# Altium integrated library ON Semi Power Mgt DC-DC Converter.IntLib: 86 symbols (part 1 of 2)
Pins are listed as number, name and electrical type; pins without a type are passive.

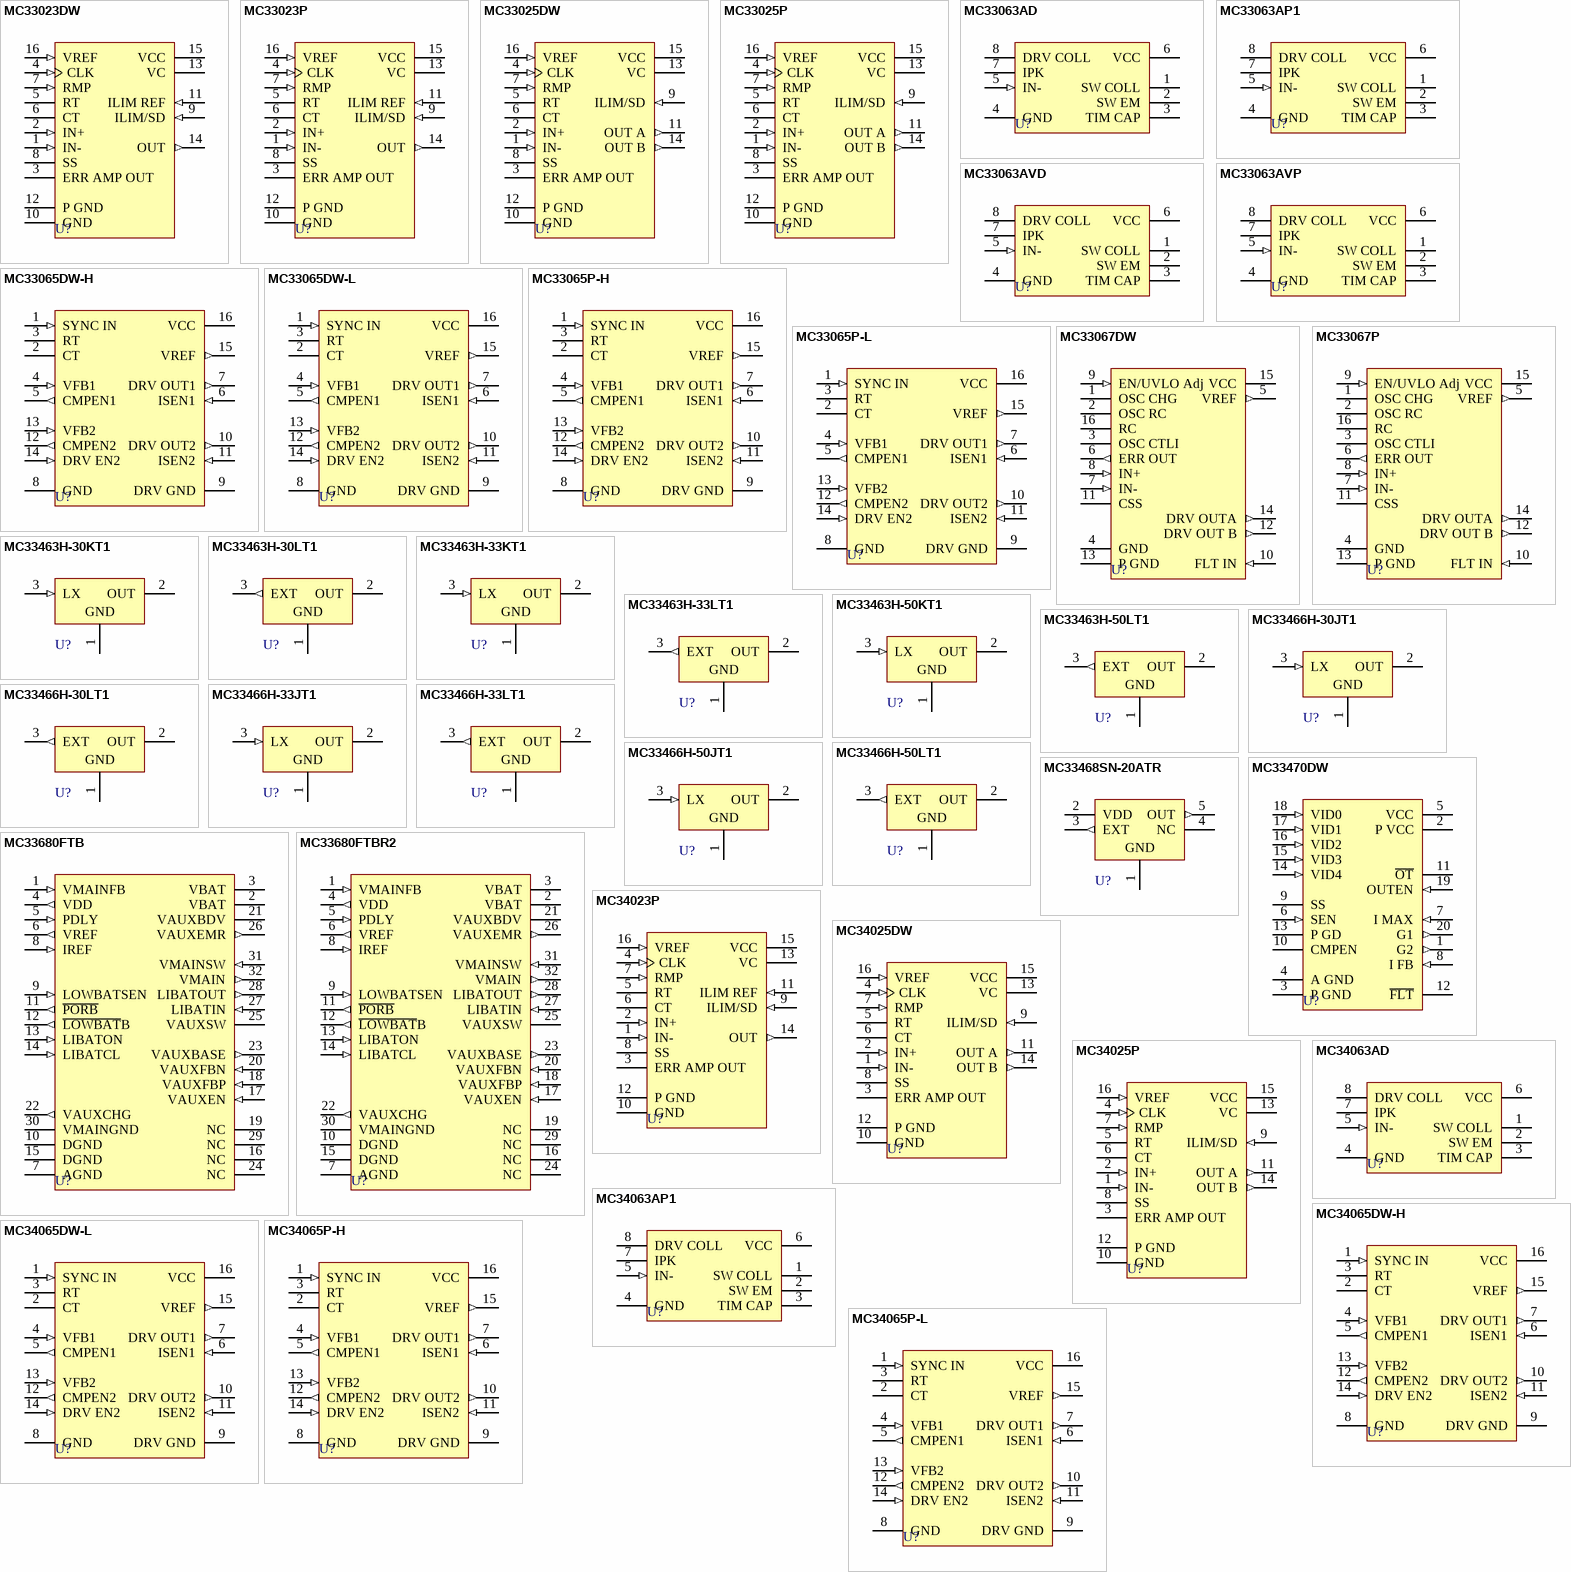
[diagram p0: symbols MC33023DW to MC34065P-L]

## MC33023DW
designator U?
High-Speed Single-Ended PWM Controller; Published: 15-Apr-2002; LatestRevisionDate: 13-Apr-2006; LatestRevisionNote: IPC-7351 Footprint Added.; DatasheetVersion: 1996; PackageVersion: Jul-1999; PackageReference: 751G-03; Publisher: Altium Limited; PackageDescription: 16-Pin Small Outline Integrated Circuit 1.27 mm Pitch; ComponentLink1Description: Manufacturer Link; ComponentLink1URL: http://www.onsemi.com/site/products/taxonomy/0,4438,503,00.html; ComponentLink2Description: Datasheet; ComponentLink2URL: http://www.onsemi.com/pub/Collateral/MC34023-D.PDF
footprint 751G-03_N (SOIC, 16-Leads, Body 10.3x7.5mm, Pitch 1.27mm, IPC Medium Density)
footprint 751G-03_L (SOIC, 16-Leads, Body 10.3x7.5mm, Pitch 1.27mm, IPC High Density)
footprint 751G-03_M (SOIC, 16-Leads, Body 10.3x7.5mm, Pitch 1.27mm, IPC Low Density)
pins: 1 IN- (in), 2 IN+ (in), 3 ERR AMP OUT, 4 CLK (in), 5 RT, 6 CT, 7 RMP (in), 8 SS, 9 ILIM/SD (in), 10 GND (power), 11 ILIM REF (in), 12 P GND (power), 13 VC (power), 14 OUT (out), 15 VCC (power), 16 VREF (in)

## MC33023P
designator U?
High-Speed Single-Ended PWM Controller; Published: 15-Apr-2002; DatasheetVersion: 1996; PackageVersion: Apr-2000; PackageReference: 648-08; Publisher: Altium Limited; PackageDescription: DIP; 16 Leads; Row Spacing 7.62 mm; Pitch 2.54 mm; Code_JEDEC: MS-001-BB; ComponentLink1Description: Manufacturer Link; ComponentLink1URL: http://www.onsemi.com/site/products/taxonomy/0,4438,503,00.html; ComponentLink2Description: Datasheet; ComponentLink2URL: http://www.onsemi.com/pub/Collateral/MC34023-D.PDF
footprint 648-08 (DIP; 16 Leads; Row Spacing 7.62 mm; Pitch 2.54 mm)
pins: 1 IN- (in), 2 IN+ (in), 3 ERR AMP OUT, 4 CLK (in), 5 RT, 6 CT, 7 RMP (in), 8 SS, 9 ILIM/SD (in), 10 GND (power), 11 ILIM REF (in), 12 P GND (power), 13 VC (power), 14 OUT (out), 15 VCC (power), 16 VREF (in)

## MC33025DW
designator U?
High-Speed Double-Ended PWM Controller; Published: 15-Apr-2002; LatestRevisionDate: 13-Apr-2006; LatestRevisionNote: IPC-7351 Footprint Added.; DatasheetVersion: 1996; PackageVersion: Jul-1999; PackageReference: 751G-03; Publisher: Altium Limited; PackageDescription: 16-Pin Small Outline Integrated Circuit 1.27 mm Pitch; ComponentLink1Description: Manufacturer Link; ComponentLink1URL: http://www.onsemi.com/site/products/taxonomy/0,4438,503,00.html; ComponentLink2Description: Datasheet; ComponentLink2URL: http://www.onsemi.com/pub/Collateral/MC34025-D.PDF
footprint 751G-03_N (SOIC, 16-Leads, Body 10.3x7.5mm, Pitch 1.27mm, IPC Medium Density)
footprint 751G-03_L (SOIC, 16-Leads, Body 10.3x7.5mm, Pitch 1.27mm, IPC High Density)
footprint 751G-03_M (SOIC, 16-Leads, Body 10.3x7.5mm, Pitch 1.27mm, IPC Low Density)
pins: 1 IN- (in), 2 IN+ (in), 3 ERR AMP OUT, 4 CLK (in), 5 RT, 6 CT, 7 RMP (in), 8 SS, 9 ILIM/SD (in), 10 GND (power), 11 OUT A (out), 12 P GND (power), 13 VC (power), 14 OUT B (out), 15 VCC (power), 16 VREF (in)

## MC33025P
designator U?
High-Speed Double-Ended PWM Controller; Published: 15-Apr-2002; DatasheetVersion: 1996; PackageVersion: Apr-2000; PackageReference: 648-08; Publisher: Altium Limited; PackageDescription: DIP; 16 Leads; Row Spacing 7.62 mm; Pitch 2.54 mm; Code_JEDEC: MS-001-BB; ComponentLink1Description: Manufacturer Link; ComponentLink1URL: http://www.onsemi.com/site/products/taxonomy/0,4438,503,00.html; ComponentLink2Description: Datasheet; ComponentLink2URL: http://www.onsemi.com/pub/Collateral/MC34025-D.PDF
footprint 648-08 (DIP; 16 Leads; Row Spacing 7.62 mm; Pitch 2.54 mm)
pins: 1 IN- (in), 2 IN+ (in), 3 ERR AMP OUT, 4 CLK (in), 5 RT, 6 CT, 7 RMP (in), 8 SS, 9 ILIM/SD (in), 10 GND (power), 11 OUT A (out), 12 P GND (power), 13 VC (power), 14 OUT B (out), 15 VCC (power), 16 VREF (in)

## MC33063AD
designator U?
DC-to-DC Converter Control Circuit; Published: 15-Apr-2002; LatestRevisionDate: 13-Apr-2006; LatestRevisionNote: IPC-7351 Footprint Added.; DatasheetVersion: 1996; PackageVersion: 1998; PackageReference: 751-05; Publisher: Altium Limited; PackageDescription: 8-Pin Small Outline Integrated Circuit 1.27 mm Pitch; Code_JEDEC: MS-012-AA; Code_IPC: SOIC127P600-8; ComponentLink1Description: Manufacturer Link; ComponentLink1URL: http://www.onsemi.com/site/products/taxonomy/0,4438,503,00.html; ComponentLink2Description: Datasheet; ComponentLink2URL: http://www.onsemi.com/pub/Collateral/MC34063A-D.PDF
footprint 751-05_N (SOIC, 8-Leads, Body 4.9x3.9mm, Pitch 1.27mm, IPC Medium Density)
footprint 751-05_L (SOIC, 8-Leads, Body 4.9x3.9mm, Pitch 1.27mm, IPC High Density)
footprint 751-05_M (SOIC, 8-Leads, Body 4.9x3.9mm, Pitch 1.27mm, IPC Low Density)
pins: 1 SW COLL, 2 SW EM, 3 TIM CAP, 4 GND (power), 5 IN- (in), 6 VCC (power), 7 IPK, 8 DRV COLL (oc)

## MC33063AP1
designator U?
DC-to-DC Converter Control Circuit; Published: 15-Apr-2002; DatasheetVersion: 1996; PackageVersion: 1998; PackageReference: 626-05; Publisher: Altium Limited; PackageDescription: DIP; 8 Leads; Row Spacing 7.62 mm; Pitch 2.54 mm; ComponentLink1Description: Manufacturer Link; ComponentLink1URL: http://www.onsemi.com/site/products/taxonomy/0,4438,503,00.html; ComponentLink2Description: Datasheet; ComponentLink2URL: http://www.onsemi.com/pub/Collateral/MC34063A-D.PDF
footprint 626-05 (DIP; 8 Leads; Row Spacing 7.62 mm; Pitch 2.54 mm)
pins: 1 SW COLL, 2 SW EM, 3 TIM CAP, 4 GND (power), 5 IN- (in), 6 VCC (power), 7 IPK, 8 DRV COLL (oc)

## MC33063AVD
designator U?
DC-to-DC Converter Control Circuit; Published: 15-Apr-2002; LatestRevisionDate: 13-Apr-2006; LatestRevisionNote: IPC-7351 Footprint Added.; DatasheetVersion: 1996; PackageVersion: 1998; PackageReference: 751-05; Publisher: Altium Limited; PackageDescription: 8-Pin Small Outline Integrated Circuit 1.27 mm Pitch; Code_JEDEC: MS-012-AA; Code_IPC: SOIC127P600-8; ComponentLink1Description: Manufacturer Link; ComponentLink1URL: http://www.onsemi.com/site/products/taxonomy/0,4438,503,00.html; ComponentLink2Description: Datasheet; ComponentLink2URL: http://www.onsemi.com/pub/Collateral/MC34063A-D.PDF
footprint 751-05_N (SOIC, 8-Leads, Body 4.9x3.9mm, Pitch 1.27mm, IPC Medium Density)
footprint 751-05_L (SOIC, 8-Leads, Body 4.9x3.9mm, Pitch 1.27mm, IPC High Density)
footprint 751-05_M (SOIC, 8-Leads, Body 4.9x3.9mm, Pitch 1.27mm, IPC Low Density)
pins: 1 SW COLL, 2 SW EM, 3 TIM CAP, 4 GND (power), 5 IN- (in), 6 VCC (power), 7 IPK, 8 DRV COLL (oc)

## MC33063AVP
designator U?
DC-to-DC Converter Control Circuit; Published: 15-Apr-2002; DatasheetVersion: 1996; PackageVersion: 1998; PackageReference: 626-05; Publisher: Altium Limited; PackageDescription: DIP; 8 Leads; Row Spacing 7.62 mm; Pitch 2.54 mm; ComponentLink1Description: Manufacturer Link; ComponentLink1URL: http://www.onsemi.com/site/products/taxonomy/0,4438,503,00.html; ComponentLink2Description: Datasheet; ComponentLink2URL: http://www.onsemi.com/pub/Collateral/MC34063A-D.PDF
footprint 626-05 (DIP; 8 Leads; Row Spacing 7.62 mm; Pitch 2.54 mm)
pins: 1 SW COLL, 2 SW EM, 3 TIM CAP, 4 GND (power), 5 IN- (in), 6 VCC (power), 7 IPK, 8 DRV COLL (oc)

## MC33065DW-H
designator U?
High Performance Dual Channel Current Mode Controller; Published: 15-Apr-2002; LatestRevisionDate: 13-Apr-2006; LatestRevisionNote: IPC-7351 Footprint Added.; DatasheetVersion: 1996; PackageVersion: Jul-1999; PackageReference: 751G-03; Publisher: Altium Limited; PackageDescription: 16-Pin Small Outline Integrated Circuit 1.27 mm Pitch; ComponentLink1Description: Manufacturer Link; ComponentLink1URL: http://www.onsemi.com/site/products/taxonomy/0,4438,503,00.html; ComponentLink2Description: Datasheet; ComponentLink2URL: http://www.onsemi.com/pub/Collateral/MC34065-H-D.PDF
footprint 751G-03_N (SOIC, 16-Leads, Body 10.3x7.5mm, Pitch 1.27mm, IPC Medium Density)
footprint 751G-03_L (SOIC, 16-Leads, Body 10.3x7.5mm, Pitch 1.27mm, IPC High Density)
footprint 751G-03_M (SOIC, 16-Leads, Body 10.3x7.5mm, Pitch 1.27mm, IPC Low Density)
pins: 1 SYNC IN (in), 2 CT, 3 RT, 4 VFB1 (in), 5 CMPEN1 (out), 6 ISEN1 (in), 7 DRV OUT1 (out), 8 GND (power), 9 DRV GND (power), 10 DRV OUT2 (out), 11 ISEN2 (in), 12 CMPEN2 (out), 13 VFB2 (in), 14 DRV EN2 (in), 15 VREF (out), 16 VCC (power)

## MC33065DW-L
designator U?
High Performance Dual Channel Current Mode Controller; Published: 15-Apr-2002; LatestRevisionDate: 13-Apr-2006; LatestRevisionNote: IPC-7351 Footprint Added.; DatasheetVersion: 1996; PackageVersion: Jul-1999; PackageReference: 751G-03; Publisher: Altium Limited; PackageDescription: 16-Pin Small Outline Integrated Circuit 1.27 mm Pitch; ComponentLink1Description: Manufacturer Link; ComponentLink1URL: http://www.onsemi.com/site/products/taxonomy/0,4438,503,00.html; ComponentLink2Description: Datasheet; ComponentLink2URL: http://www.onsemi.com/pub/Collateral/MC34065-H-D.PDF
footprint 751G-03_N (SOIC, 16-Leads, Body 10.3x7.5mm, Pitch 1.27mm, IPC Medium Density)
footprint 751G-03_L (SOIC, 16-Leads, Body 10.3x7.5mm, Pitch 1.27mm, IPC High Density)
footprint 751G-03_M (SOIC, 16-Leads, Body 10.3x7.5mm, Pitch 1.27mm, IPC Low Density)
pins: 1 SYNC IN (in), 2 CT, 3 RT, 4 VFB1 (in), 5 CMPEN1 (out), 6 ISEN1 (in), 7 DRV OUT1 (out), 8 GND (power), 9 DRV GND (power), 10 DRV OUT2 (out), 11 ISEN2 (in), 12 CMPEN2 (out), 13 VFB2 (in), 14 DRV EN2 (in), 15 VREF (out), 16 VCC (power)

## MC33065P-H
designator U?
High Performance Dual Channel Current Mode Controller; Published: 15-Apr-2002; DatasheetVersion: 1996; PackageVersion: Apr-2000; PackageReference: 648-08; Publisher: Altium Limited; PackageDescription: DIP; 16 Leads; Row Spacing 7.62 mm; Pitch 2.54 mm; Code_JEDEC: MS-001-BB; ComponentLink1Description: Manufacturer Link; ComponentLink1URL: http://www.onsemi.com/site/products/taxonomy/0,4438,503,00.html; ComponentLink2Description: Datasheet; ComponentLink2URL: http://www.onsemi.com/pub/Collateral/MC34065-H-D.PDF
footprint 648-08 (DIP; 16 Leads; Row Spacing 7.62 mm; Pitch 2.54 mm)
pins: 1 SYNC IN (in), 2 CT, 3 RT, 4 VFB1 (in), 5 CMPEN1 (out), 6 ISEN1 (in), 7 DRV OUT1 (out), 8 GND (power), 9 DRV GND (power), 10 DRV OUT2 (out), 11 ISEN2 (in), 12 CMPEN2 (out), 13 VFB2 (in), 14 DRV EN2 (in), 15 VREF (out), 16 VCC (power)

## MC33065P-L
designator U?
High Performance Dual Channel Current Mode Controller; Published: 15-Apr-2002; DatasheetVersion: 1996; PackageVersion: Apr-2000; PackageReference: 648-08; Publisher: Altium Limited; PackageDescription: DIP; 16 Leads; Row Spacing 7.62 mm; Pitch 2.54 mm; Code_JEDEC: MS-001-BB; ComponentLink1Description: Manufacturer Link; ComponentLink1URL: http://www.onsemi.com/site/products/taxonomy/0,4438,503,00.html; ComponentLink2Description: Datasheet; ComponentLink2URL: http://www.onsemi.com/pub/Collateral/MC34065-H-D.PDF
footprint 648-08 (DIP; 16 Leads; Row Spacing 7.62 mm; Pitch 2.54 mm)
pins: 1 SYNC IN (in), 2 CT, 3 RT, 4 VFB1 (in), 5 CMPEN1 (out), 6 ISEN1 (in), 7 DRV OUT1 (out), 8 GND (power), 9 DRV GND (power), 10 DRV OUT2 (out), 11 ISEN2 (in), 12 CMPEN2 (out), 13 VFB2 (in), 14 DRV EN2 (in), 15 VREF (out), 16 VCC (power)

## MC33067DW
designator U?
High Performance Resonant Mode Controller; Published: 15-Apr-2002; LatestRevisionDate: 13-Apr-2006; LatestRevisionNote: IPC-7351 Footprint Added.; DatasheetVersion: May-1999; PackageVersion: Jul-1999; PackageReference: 751G-03; Publisher: Altium Limited; PackageDescription: 16-Pin Small Outline Integrated Circuit 1.27 mm Pitch; ComponentLink1Description: Manufacturer Link; ComponentLink1URL: http://www.onsemi.com/site/products/taxonomy/0,4438,503,00.html; ComponentLink2Description: Datasheet; ComponentLink2URL: http://www.onsemi.com/pub/Collateral/MC34067-D.PDF
footprint 751G-03_N (SOIC, 16-Leads, Body 10.3x7.5mm, Pitch 1.27mm, IPC Medium Density)
footprint 751G-03_L (SOIC, 16-Leads, Body 10.3x7.5mm, Pitch 1.27mm, IPC High Density)
footprint 751G-03_M (SOIC, 16-Leads, Body 10.3x7.5mm, Pitch 1.27mm, IPC Low Density)
pins: 1 OSC CHG, 2 OSC RC, 3 OSC CTLI, 4 GND (power), 5 VREF (out), 6 ERR OUT (out), 7 IN- (in), 8 IN+ (in), 9 EN/UVLO Adj (in), 10 FLT IN (in), 11 CSS, 12 DRV OUT B (out), 13 P GND (power), 14 DRV OUTA (out), 15 VCC (power), 16 RC

## MC33067P
designator U?
High Performance Resonant Mode Controller; Published: 15-Apr-2002; DatasheetVersion: May-1999; PackageVersion: Apr-2000; PackageReference: 648-08; Publisher: Altium Limited; PackageDescription: DIP; 16 Leads; Row Spacing 7.62 mm; Pitch 2.54 mm; Code_JEDEC: MS-001-BB; ComponentLink1Description: Manufacturer Link; ComponentLink1URL: http://www.onsemi.com/site/products/taxonomy/0,4438,503,00.html; ComponentLink2Description: Datasheet; ComponentLink2URL: http://www.onsemi.com/pub/Collateral/MC34067-D.PDF
footprint 648-08 (DIP; 16 Leads; Row Spacing 7.62 mm; Pitch 2.54 mm)
pins: 1 OSC CHG, 2 OSC RC, 3 OSC CTLI, 4 GND (power), 5 VREF (out), 6 ERR OUT (out), 7 IN- (in), 8 IN+ (in), 9 EN/UVLO Adj (in), 10 FLT IN (in), 11 CSS, 12 DRV OUT B (out), 13 P GND (power), 14 DRV OUTA (out), 15 VCC (power), 16 RC

## MC33463H-30KT1
designator U?
Variable Frequency MicroPower DC-to-DC Converter; Note: Pin 2 is connected to TAB; Published: 15-Apr-2002; DatasheetVersion: 1999; PackageVersion: 1999; PackageReference: 1213-01; Publisher: Altium Limited; PackageDescription: SOT-89; Body 4.6 x 4.25 mm, inc. leads (LxW max); ComponentLink1Description: Manufacturer Link; ComponentLink1URL: http://www.onsemi.com/site/products/taxonomy/0,4438,503,00.html; ComponentLink2Description: Datasheet; ComponentLink2URL: http://www.onsemi.com/pub/Collateral/MC33463-D.PDF
footprint 1213-01 (SOT-89; Body 4.6 x 4.25 mm, inc. leads (LxW max))
pins: 1 GND (power), 2 OUT (power), 3 LX (in)

## MC33463H-30LT1
designator U?
Variable Frequency MicroPower DC-to-DC Converter; Note: Pin 2 is connected to TAB; Published: 15-Apr-2002; DatasheetVersion: 1999; PackageVersion: 1999; PackageReference: 1213-01; Publisher: Altium Limited; PackageDescription: SOT-89; Body 4.6 x 4.25 mm, inc. leads (LxW max); ComponentLink1Description: Manufacturer Link; ComponentLink1URL: http://www.onsemi.com/site/products/taxonomy/0,4438,503,00.html; ComponentLink2Description: Datasheet; ComponentLink2URL: http://www.onsemi.com/pub/Collateral/MC33463-D.PDF
footprint 1213-01 (SOT-89; Body 4.6 x 4.25 mm, inc. leads (LxW max))
pins: 1 GND (power), 2 OUT (power), 3 EXT (out)

## MC33463H-33KT1
designator U?
Variable Frequency MicroPower DC-to-DC Converter; Note: Pin 2 is connected to TAB; Published: 15-Apr-2002; DatasheetVersion: 1999; PackageVersion: 1999; PackageReference: 1213-01; Publisher: Altium Limited; PackageDescription: SOT-89; Body 4.6 x 4.25 mm, inc. leads (LxW max); ComponentLink1Description: Manufacturer Link; ComponentLink1URL: http://www.onsemi.com/site/products/taxonomy/0,4438,503,00.html; ComponentLink2Description: Datasheet; ComponentLink2URL: http://www.onsemi.com/pub/Collateral/MC33463-D.PDF
footprint 1213-01 (SOT-89; Body 4.6 x 4.25 mm, inc. leads (LxW max))
pins: 1 GND (power), 2 OUT (power), 3 LX (in)

## MC33463H-33LT1
designator U?
Variable Frequency MicroPower DC-to-DC Converter; Note: Pin 2 is connected to TAB; Published: 15-Apr-2002; DatasheetVersion: 1999; PackageVersion: 1999; PackageReference: 1213-01; Publisher: Altium Limited; PackageDescription: SOT-89; Body 4.6 x 4.25 mm, inc. leads (LxW max); ComponentLink1Description: Manufacturer Link; ComponentLink1URL: http://www.onsemi.com/site/products/taxonomy/0,4438,503,00.html; ComponentLink2Description: Datasheet; ComponentLink2URL: http://www.onsemi.com/pub/Collateral/MC33463-D.PDF
footprint 1213-01 (SOT-89; Body 4.6 x 4.25 mm, inc. leads (LxW max))
pins: 1 GND (power), 2 OUT (power), 3 EXT (out)

## MC33463H-50KT1
designator U?
Variable Frequency MicroPower DC-to-DC Converter; Note: Pin 2 is connected to TAB; Published: 15-Apr-2002; DatasheetVersion: 1999; PackageVersion: 1999; PackageReference: 1213-01; Publisher: Altium Limited; PackageDescription: SOT-89; Body 4.6 x 4.25 mm, inc. leads (LxW max); ComponentLink1Description: Manufacturer Link; ComponentLink1URL: http://www.onsemi.com/site/products/taxonomy/0,4438,503,00.html; ComponentLink2Description: Datasheet; ComponentLink2URL: http://www.onsemi.com/pub/Collateral/MC33463-D.PDF
footprint 1213-01 (SOT-89; Body 4.6 x 4.25 mm, inc. leads (LxW max))
pins: 1 GND (power), 2 OUT (power), 3 LX (in)

## MC33463H-50LT1
designator U?
Variable Frequency MicroPower DC-to-DC Converter; Note: Pin 2 is connected to TAB; Published: 15-Apr-2002; DatasheetVersion: 1999; PackageVersion: 1999; PackageReference: 1213-01; Publisher: Altium Limited; PackageDescription: SOT-89; Body 4.6 x 4.25 mm, inc. leads (LxW max); ComponentLink1Description: Manufacturer Link; ComponentLink1URL: http://www.onsemi.com/site/products/taxonomy/0,4438,503,00.html; ComponentLink2Description: Datasheet; ComponentLink2URL: http://www.onsemi.com/pub/Collateral/MC33463-D.PDF
footprint 1213-01 (SOT-89; Body 4.6 x 4.25 mm, inc. leads (LxW max))
pins: 1 GND (power), 2 OUT (power), 3 EXT (out)

## MC33466H-30JT1
designator U?
Fixed Frequency PWM MicroPower DC-to-DC Converter; Note: Tab is connected to Pin 2; Published: 15-Apr-2002; DatasheetVersion: Aug-1999; PackageVersion: 1999; PackageReference: 1213-01; Publisher: Altium Limited; PackageDescription: SOT-89; Body 4.6 x 4.25 mm, inc. leads (LxW max); ComponentLink1Description: Manufacturer Link; ComponentLink1URL: http://www.onsemi.com/site/products/taxonomy/0,4438,503,00.html; ComponentLink2Description: Datasheet; ComponentLink2URL: http://www.onsemi.com/pub/Collateral/MC33466-D.PDF
footprint 1213-01 (SOT-89; Body 4.6 x 4.25 mm, inc. leads (LxW max))
pins: 1 GND (power), 2 OUT (power), 3 LX (in)

## MC33466H-30LT1
designator U?
Fixed Frequency PWM MicroPower DC-to-DC Converter; Note: Tab is connected to Pin 2; Published: 15-Apr-2002; DatasheetVersion: Aug-1999; PackageVersion: 1999; PackageReference: 1213-01; Publisher: Altium Limited; PackageDescription: SOT-89; Body 4.6 x 4.25 mm, inc. leads (LxW max); ComponentLink1Description: Manufacturer Link; ComponentLink1URL: http://www.onsemi.com/site/products/taxonomy/0,4438,503,00.html; ComponentLink2Description: Datasheet; ComponentLink2URL: http://www.onsemi.com/pub/Collateral/MC33466-D.PDF
footprint 1213-01 (SOT-89; Body 4.6 x 4.25 mm, inc. leads (LxW max))
pins: 1 GND (power), 2 OUT (power), 3 EXT (out)

## MC33466H-33JT1
designator U?
Fixed Frequency PWM MicroPower DC-to-DC Converter; Note: Tab is connected to Pin 2; Published: 15-Apr-2002; DatasheetVersion: Aug-1999; PackageVersion: 1999; PackageReference: 1213-01; Publisher: Altium Limited; PackageDescription: SOT-89; Body 4.6 x 4.25 mm, inc. leads (LxW max); ComponentLink1Description: Manufacturer Link; ComponentLink1URL: http://www.onsemi.com/site/products/taxonomy/0,4438,503,00.html; ComponentLink2Description: Datasheet; ComponentLink2URL: http://www.onsemi.com/pub/Collateral/MC33466-D.PDF
footprint 1213-01 (SOT-89; Body 4.6 x 4.25 mm, inc. leads (LxW max))
pins: 1 GND (power), 2 OUT (power), 3 LX (in)

## MC33466H-33LT1
designator U?
Fixed Frequency PWM MicroPower DC-to-DC Converter; Note: Tab is connected to Pin 2; Published: 15-Apr-2002; DatasheetVersion: Aug-1999; PackageVersion: 1999; PackageReference: 1213-01; Publisher: Altium Limited; PackageDescription: SOT-89; Body 4.6 x 4.25 mm, inc. leads (LxW max); ComponentLink1Description: Manufacturer Link; ComponentLink1URL: http://www.onsemi.com/site/products/taxonomy/0,4438,503,00.html; ComponentLink2Description: Datasheet; ComponentLink2URL: http://www.onsemi.com/pub/Collateral/MC33466-D.PDF
footprint 1213-01 (SOT-89; Body 4.6 x 4.25 mm, inc. leads (LxW max))
pins: 1 GND (power), 2 OUT (power), 3 EXT (out)

## MC33466H-50JT1
designator U?
Fixed Frequency PWM MicroPower DC-to-DC Converter; Note: Tab is connected to Pin 2; Published: 15-Apr-2002; DatasheetVersion: Aug-1999; PackageVersion: 1999; PackageReference: 1213-01; Publisher: Altium Limited; PackageDescription: SOT-89; Body 4.6 x 4.25 mm, inc. leads (LxW max); ComponentLink1Description: Manufacturer Link; ComponentLink1URL: http://www.onsemi.com/site/products/taxonomy/0,4438,503,00.html; ComponentLink2Description: Datasheet; ComponentLink2URL: http://www.onsemi.com/pub/Collateral/MC33466-D.PDF
footprint 1213-01 (SOT-89; Body 4.6 x 4.25 mm, inc. leads (LxW max))
pins: 1 GND (power), 2 OUT (power), 3 LX (in)

## MC33466H-50LT1
designator U?
Fixed Frequency PWM MicroPower DC-to-DC Converter; Note: Tab is connected to Pin 2; Published: 15-Apr-2002; DatasheetVersion: Aug-1999; PackageVersion: 1999; PackageReference: 1213-01; Publisher: Altium Limited; PackageDescription: SOT-89; Body 4.6 x 4.25 mm, inc. leads (LxW max); ComponentLink1Description: Manufacturer Link; ComponentLink1URL: http://www.onsemi.com/site/products/taxonomy/0,4438,503,00.html; ComponentLink2Description: Datasheet; ComponentLink2URL: http://www.onsemi.com/pub/Collateral/MC33466-D.PDF
footprint 1213-01 (SOT-89; Body 4.6 x 4.25 mm, inc. leads (LxW max))
pins: 1 GND (power), 2 OUT (power), 3 EXT (out)

## MC33468SN-20ATR
designator U?
Variable Frequency Step-Up Micropower DC-to-DC Converter; Published: 15-Apr-2002; DatasheetVersion: 3-Sep-1999; PackageVersion: Jul-1999; PackageReference: 1212-01; Publisher: Altium Limited; PackageDescription: SOT-23/SC-74A; 5 Leads; Body 3 x 3.1 mm, inc. leads (LxW max); ComponentLink1Description: Manufacturer Link; ComponentLink1URL: http://www.onsemi.com/site/products/taxonomy/0,4438,503,00.html; ComponentLink2Description: Datasheet; ComponentLink2URL: http://www.onsemi.com/pub/Collateral/MC33468-D.PDF
footprint 1212-01 (SOT-23/SC-74A; 5 Leads; Body 3 x 3.1 mm, inc. leads (LxW max))
pins: 1 GND (power), 2 VDD (power), 3 EXT (out), 4 NC, 5 OUT (out)

## MC33470DW
designator U?
Synchronous Rectification, DC/DC Converter, Programmable Integrated Controller; Published: 15-Apr-2002; LatestRevisionDate: 13-Apr-2006; LatestRevisionNote: IPC-7351 Footprint Added.; DatasheetVersion: 1999; PackageVersion: 1999; PackageReference: 751D; Publisher: Altium Limited; PackageDescription: 20-Pin Small Outline Integrated Circuit 1.27 mm Pitch; ComponentLink1Description: Manufacturer Link; ComponentLink1URL: http://www.onsemi.com/site/products/taxonomy/0,4438,503,00.html; ComponentLink2Description: Datasheet; ComponentLink2URL: http://www.onsemi.com/pub/Collateral/MC33470-D.PDF
footprint 751D_N (SOIC, 20-Leads, Body 12.8x7.5mm, Pitch 1.27mm, IPC Medium Density)
footprint 751D_L (SOIC, 20-Leads, Body 12.8x7.5mm, Pitch 1.27mm, IPC High Density)
footprint 751D_M (SOIC, 20-Leads, Body 12.8x7.5mm, Pitch 1.27mm, IPC Low Density)
pins: 1 G2 (out), 2 P VCC (power), 3 P GND (power), 4 A GND (power), 5 VCC (power), 6 SEN (in), 7 I MAX (in), 8 I FB (in), 9 SS, 10 CMPEN, 11 ~{OT} (oc), 12 ~{FLT} (oc), 13 P GD (oc), 14 VID4 (in), 15 VID3 (in), 16 VID2 (in), 17 VID1 (in), 18 VID0 (in), 19 OUTEN (in), 20 G1 (out)

## MC33680FTB
designator U?
Dual DC-DC Regulator for Electronic Organizer; Published: 15-Apr-2002; LatestRevisionDate: 13-Apr-2006; LatestRevisionNote: IPC-7351 Footprint Added.; DatasheetVersion: May-2000; PackageVersion: May-2000; PackageReference: 873A-02; Publisher: Altium Limited; PackageDescription: 32-Pin Thin Quad Flat Pack 0.8 mm Pitch; ComponentLink1Description: Manufacturer Link; ComponentLink1URL: http://www.onsemi.com/site/products/taxonomy/0,4438,503,00.html; ComponentLink2Description: Datasheet; ComponentLink2URL: http://www.onsemi.com/pub/Collateral/MC33680-D.PDF
footprint 873A-02_N (Thin QFP, 32-Leads, Body 7x7mm, Pitch 0.8mm, IPC Medium Density)
footprint 873A-02_L (Thin QFP, 32-Leads, Body 7x7mm, Pitch 0.8mm, IPC High Density)
footprint 873A-02_M (Thin QFP, 32-Leads, Body 7x7mm, Pitch 0.8mm, IPC Low Density)
pins: 1 VMAINFB (in), 2 VBAT (power), 3 VBAT (power), 4 VDD (out), 5 PDLY (in), 6 VREF (out), 7 AGND (power), 8 IREF (in), 9 LOWBATSEN (in), 10 DGND (power), 11 ~{PORB} (out), 12 ~{LOWBAT}B (out), 13 LIBATON (in), 14 LIBATCL (in), 15 DGND (power), 16 NC, 17 VAUXEN (in), 18 VAUXFBP (in), 19 NC, 20 VAUXFBN (in), 21 VAUXBDV (power), 22 VAUXCHG (out), 23 VAUXBASE (out), 24 NC, 25 VAUXSW (oc), 26 VAUXEMR (out), 27 LIBATIN (in), 28 LIBATOUT (out), 29 NC, 30 VMAINGND (power), 31 VMAINSW (in), 32 VMAIN (out)

## MC33680FTBR2
designator U?
Dual DC-DC Regulator for Electronic Organizer; Published: 15-Apr-2002; LatestRevisionDate: 13-Apr-2006; LatestRevisionNote: IPC-7351 Footprint Added.; DatasheetVersion: May-2000; PackageVersion: May-2000; PackageReference: 873A-02; Publisher: Altium Limited; PackageDescription: 32-Pin Thin Quad Flat Pack 0.8 mm Pitch; ComponentLink1Description: Manufacturer Link; ComponentLink1URL: http://www.onsemi.com/site/products/taxonomy/0,4438,503,00.html; ComponentLink2Description: Datasheet; ComponentLink2URL: http://www.onsemi.com/pub/Collateral/MC33680-D.PDF
footprint 873A-02_N (Thin QFP, 32-Leads, Body 7x7mm, Pitch 0.8mm, IPC Medium Density)
footprint 873A-02_L (Thin QFP, 32-Leads, Body 7x7mm, Pitch 0.8mm, IPC High Density)
footprint 873A-02_M (Thin QFP, 32-Leads, Body 7x7mm, Pitch 0.8mm, IPC Low Density)
pins: 1 VMAINFB (in), 2 VBAT (power), 3 VBAT (power), 4 VDD (out), 5 PDLY (in), 6 VREF (out), 7 AGND (power), 8 IREF (in), 9 LOWBATSEN (in), 10 DGND (power), 11 ~{PORB} (out), 12 ~{LOWBAT}B (out), 13 LIBATON (in), 14 LIBATCL (in), 15 DGND (power), 16 NC, 17 VAUXEN (in), 18 VAUXFBP (in), 19 NC, 20 VAUXFBN (in), 21 VAUXBDV (power), 22 VAUXCHG (out), 23 VAUXBASE (out), 24 NC, 25 VAUXSW (oc), 26 VAUXEMR (out), 27 LIBATIN (in), 28 LIBATOUT (out), 29 NC, 30 VMAINGND (power), 31 VMAINSW (in), 32 VMAIN (out)

## MC34023P
designator U?
High-Speed Single-Ended PWM Controller; Published: 15-Apr-2002; DatasheetVersion: 1996; PackageVersion: Apr-2000; PackageReference: 648-08; Publisher: Altium Limited; PackageDescription: DIP; 16 Leads; Row Spacing 7.62 mm; Pitch 2.54 mm; Code_JEDEC: MS-001-BB; ComponentLink1Description: Manufacturer Link; ComponentLink1URL: http://www.onsemi.com/site/products/taxonomy/0,4438,503,00.html; ComponentLink2Description: Datasheet; ComponentLink2URL: http://www.onsemi.com/pub/Collateral/MC34023-D.PDF
footprint 648-08 (DIP; 16 Leads; Row Spacing 7.62 mm; Pitch 2.54 mm)
pins: 1 IN- (in), 2 IN+ (in), 3 ERR AMP OUT, 4 CLK (in), 5 RT, 6 CT, 7 RMP (in), 8 SS, 9 ILIM/SD (in), 10 GND (power), 11 ILIM REF (in), 12 P GND (power), 13 VC (power), 14 OUT (out), 15 VCC (power), 16 VREF (in)

## MC34025DW
designator U?
High-Speed Double-Ended PWM Controller; Published: 15-Apr-2002; LatestRevisionDate: 13-Apr-2006; LatestRevisionNote: IPC-7351 Footprint Added.; DatasheetVersion: 1996; PackageVersion: Jul-1999; PackageReference: 751G-03; Publisher: Altium Limited; PackageDescription: 16-Pin Small Outline Integrated Circuit 1.27 mm Pitch; ComponentLink1Description: Manufacturer Link; ComponentLink1URL: http://www.onsemi.com/site/products/taxonomy/0,4438,503,00.html; ComponentLink2Description: Datasheet; ComponentLink2URL: http://www.onsemi.com/pub/Collateral/MC34025-D.PDF
footprint 751G-03_N (SOIC, 16-Leads, Body 10.3x7.5mm, Pitch 1.27mm, IPC Medium Density)
footprint 751G-03_L (SOIC, 16-Leads, Body 10.3x7.5mm, Pitch 1.27mm, IPC High Density)
footprint 751G-03_M (SOIC, 16-Leads, Body 10.3x7.5mm, Pitch 1.27mm, IPC Low Density)
pins: 1 IN- (in), 2 IN+ (in), 3 ERR AMP OUT, 4 CLK (in), 5 RT, 6 CT, 7 RMP (in), 8 SS, 9 ILIM/SD (in), 10 GND (power), 11 OUT A (out), 12 P GND (power), 13 VC (power), 14 OUT B (out), 15 VCC (power), 16 VREF (in)

## MC34025P
designator U?
High-Speed Double-Ended PWM Controller; Published: 15-Apr-2002; DatasheetVersion: 1996; PackageVersion: Apr-2000; PackageReference: 648-08; Publisher: Altium Limited; PackageDescription: DIP; 16 Leads; Row Spacing 7.62 mm; Pitch 2.54 mm; Code_JEDEC: MS-001-BB; ComponentLink1Description: Manufacturer Link; ComponentLink1URL: http://www.onsemi.com/site/products/taxonomy/0,4438,503,00.html; ComponentLink2Description: Datasheet; ComponentLink2URL: http://www.onsemi.com/pub/Collateral/MC34025-D.PDF
footprint 648-08 (DIP; 16 Leads; Row Spacing 7.62 mm; Pitch 2.54 mm)
pins: 1 IN- (in), 2 IN+ (in), 3 ERR AMP OUT, 4 CLK (in), 5 RT, 6 CT, 7 RMP (in), 8 SS, 9 ILIM/SD (in), 10 GND (power), 11 OUT A (out), 12 P GND (power), 13 VC (power), 14 OUT B (out), 15 VCC (power), 16 VREF (in)

## MC34063AD
designator U?
DC-to-DC Converter Control Circuit; Published: 15-Apr-2002; LatestRevisionDate: 13-Apr-2006; LatestRevisionNote: IPC-7351 Footprint Added.; DatasheetVersion: 1996; PackageVersion: 1998; PackageReference: 751-05; Publisher: Altium Limited; PackageDescription: 8-Pin Small Outline Integrated Circuit 1.27 mm Pitch; Code_JEDEC: MS-012-AA; Code_IPC: SOIC127P600-8; ComponentLink1Description: Manufacturer Link; ComponentLink1URL: http://www.onsemi.com/site/products/taxonomy/0,4438,503,00.html; ComponentLink2Description: Datasheet; ComponentLink2URL: http://www.onsemi.com/pub/Collateral/MC34063A-D.PDF
footprint 751-05_N (SOIC, 8-Leads, Body 4.9x3.9mm, Pitch 1.27mm, IPC Medium Density)
footprint 751-05_L (SOIC, 8-Leads, Body 4.9x3.9mm, Pitch 1.27mm, IPC High Density)
footprint 751-05_M (SOIC, 8-Leads, Body 4.9x3.9mm, Pitch 1.27mm, IPC Low Density)
pins: 1 SW COLL, 2 SW EM, 3 TIM CAP, 4 GND (power), 5 IN- (in), 6 VCC (power), 7 IPK, 8 DRV COLL (oc)

## MC34063AP1
designator U?
DC-to-DC Converter Control Circuit; Published: 15-Apr-2002; DatasheetVersion: 1996; PackageVersion: 1998; PackageReference: 626-05; Publisher: Altium Limited; PackageDescription: DIP; 8 Leads; Row Spacing 7.62 mm; Pitch 2.54 mm; ComponentLink1Description: Manufacturer Link; ComponentLink1URL: http://www.onsemi.com/site/products/taxonomy/0,4438,503,00.html; ComponentLink2Description: Datasheet; ComponentLink2URL: http://www.onsemi.com/pub/Collateral/MC34063A-D.PDF
footprint 626-05 (DIP; 8 Leads; Row Spacing 7.62 mm; Pitch 2.54 mm)
pins: 1 SW COLL, 2 SW EM, 3 TIM CAP, 4 GND (power), 5 IN- (in), 6 VCC (power), 7 IPK, 8 DRV COLL (oc)

## MC34065DW-H
designator U?
High Performance Dual Channel Current Mode Controller; Published: 15-Apr-2002; LatestRevisionDate: 13-Apr-2006; LatestRevisionNote: IPC-7351 Footprint Added.; DatasheetVersion: 1996; PackageVersion: Jul-1999; PackageReference: 751G-03; Publisher: Altium Limited; PackageDescription: 16-Pin Small Outline Integrated Circuit 1.27 mm Pitch; ComponentLink1Description: Manufacturer Link; ComponentLink1URL: http://www.onsemi.com/site/products/taxonomy/0,4438,503,00.html; ComponentLink2Description: Datasheet; ComponentLink2URL: http://www.onsemi.com/pub/Collateral/MC34065-H-D.PDF
footprint 751G-03_N (SOIC, 16-Leads, Body 10.3x7.5mm, Pitch 1.27mm, IPC Medium Density)
footprint 751G-03_L (SOIC, 16-Leads, Body 10.3x7.5mm, Pitch 1.27mm, IPC High Density)
footprint 751G-03_M (SOIC, 16-Leads, Body 10.3x7.5mm, Pitch 1.27mm, IPC Low Density)
pins: 1 SYNC IN (in), 2 CT, 3 RT, 4 VFB1 (in), 5 CMPEN1 (out), 6 ISEN1 (in), 7 DRV OUT1 (out), 8 GND (power), 9 DRV GND (power), 10 DRV OUT2 (out), 11 ISEN2 (in), 12 CMPEN2 (out), 13 VFB2 (in), 14 DRV EN2 (in), 15 VREF (out), 16 VCC (power)

## MC34065DW-L
designator U?
High Performance Dual Channel Current Mode Controller; Published: 15-Apr-2002; LatestRevisionDate: 13-Apr-2006; LatestRevisionNote: IPC-7351 Footprint Added.; DatasheetVersion: 1996; PackageVersion: Jul-1999; PackageReference: 751G-03; Publisher: Altium Limited; PackageDescription: 16-Pin Small Outline Integrated Circuit 1.27 mm Pitch; ComponentLink1Description: Manufacturer Link; ComponentLink1URL: http://www.onsemi.com/site/products/taxonomy/0,4438,503,00.html; ComponentLink2Description: Datasheet; ComponentLink2URL: http://www.onsemi.com/pub/Collateral/MC34065-H-D.PDF
footprint 751G-03_N (SOIC, 16-Leads, Body 10.3x7.5mm, Pitch 1.27mm, IPC Medium Density)
footprint 751G-03_L (SOIC, 16-Leads, Body 10.3x7.5mm, Pitch 1.27mm, IPC High Density)
footprint 751G-03_M (SOIC, 16-Leads, Body 10.3x7.5mm, Pitch 1.27mm, IPC Low Density)
pins: 1 SYNC IN (in), 2 CT, 3 RT, 4 VFB1 (in), 5 CMPEN1 (out), 6 ISEN1 (in), 7 DRV OUT1 (out), 8 GND (power), 9 DRV GND (power), 10 DRV OUT2 (out), 11 ISEN2 (in), 12 CMPEN2 (out), 13 VFB2 (in), 14 DRV EN2 (in), 15 VREF (out), 16 VCC (power)

## MC34065P-H
designator U?
High Performance Dual Channel Current Mode Controller; Published: 15-Apr-2002; DatasheetVersion: 1996; PackageVersion: Apr-2000; PackageReference: 648-08; Publisher: Altium Limited; PackageDescription: DIP; 16 Leads; Row Spacing 7.62 mm; Pitch 2.54 mm; Code_JEDEC: MS-001-BB; ComponentLink1Description: Manufacturer Link; ComponentLink1URL: http://www.onsemi.com/site/products/taxonomy/0,4438,503,00.html; ComponentLink2Description: Datasheet; ComponentLink2URL: http://www.onsemi.com/pub/Collateral/MC34065-H-D.PDF
footprint 648-08 (DIP; 16 Leads; Row Spacing 7.62 mm; Pitch 2.54 mm)
pins: 1 SYNC IN (in), 2 CT, 3 RT, 4 VFB1 (in), 5 CMPEN1 (out), 6 ISEN1 (in), 7 DRV OUT1 (out), 8 GND (power), 9 DRV GND (power), 10 DRV OUT2 (out), 11 ISEN2 (in), 12 CMPEN2 (out), 13 VFB2 (in), 14 DRV EN2 (in), 15 VREF (out), 16 VCC (power)

## MC34065P-L
designator U?
High Performance Dual Channel Current Mode Controller; Published: 15-Apr-2002; DatasheetVersion: 1996; PackageVersion: Apr-2000; PackageReference: 648-08; Publisher: Altium Limited; PackageDescription: DIP; 16 Leads; Row Spacing 7.62 mm; Pitch 2.54 mm; Code_JEDEC: MS-001-BB; ComponentLink1Description: Manufacturer Link; ComponentLink1URL: http://www.onsemi.com/site/products/taxonomy/0,4438,503,00.html; ComponentLink2Description: Datasheet; ComponentLink2URL: http://www.onsemi.com/pub/Collateral/MC34065-H-D.PDF
footprint 648-08 (DIP; 16 Leads; Row Spacing 7.62 mm; Pitch 2.54 mm)
pins: 1 SYNC IN (in), 2 CT, 3 RT, 4 VFB1 (in), 5 CMPEN1 (out), 6 ISEN1 (in), 7 DRV OUT1 (out), 8 GND (power), 9 DRV GND (power), 10 DRV OUT2 (out), 11 ISEN2 (in), 12 CMPEN2 (out), 13 VFB2 (in), 14 DRV EN2 (in), 15 VREF (out), 16 VCC (power)

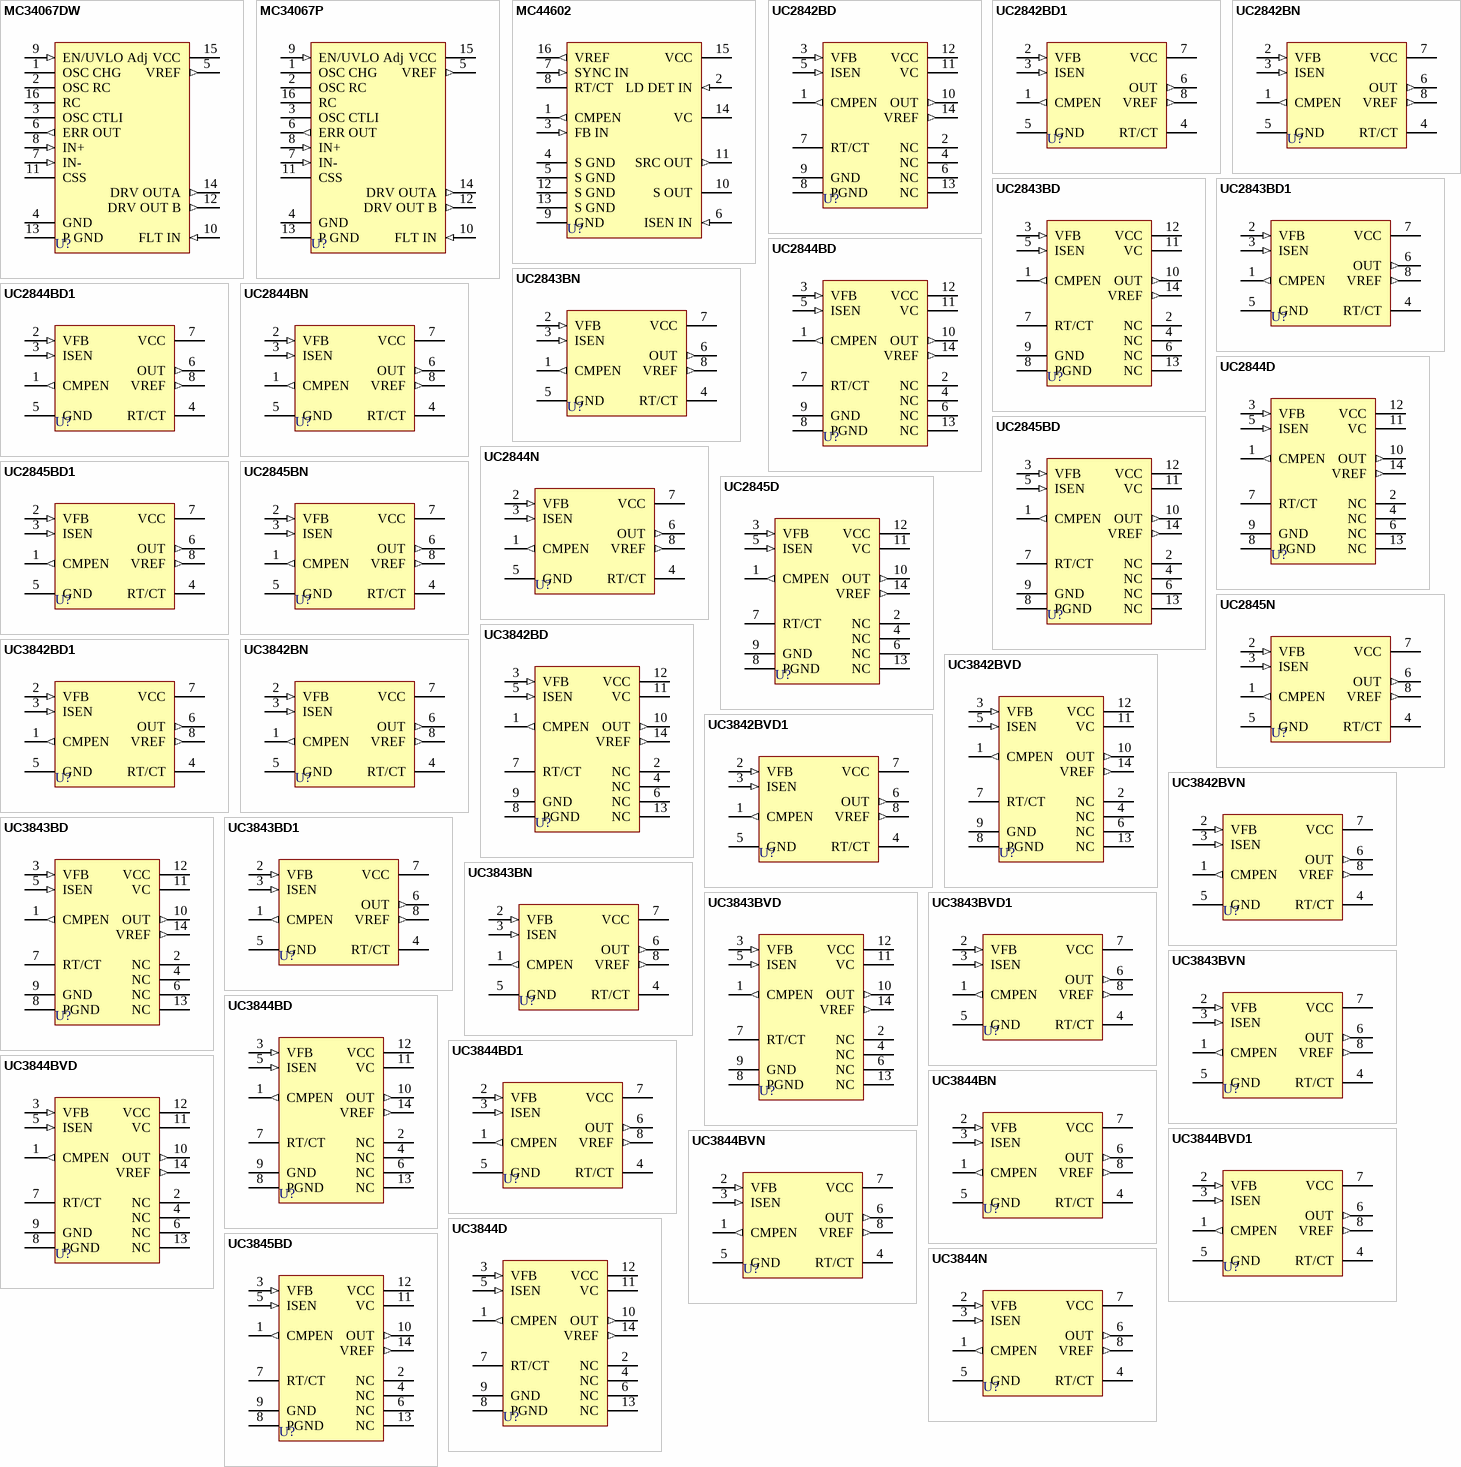
[diagram p1: symbols MC34067DW to UC3845BD]

## MC34067DW
designator U?
High Performance Resonant Mode Controller; Published: 15-Apr-2002; LatestRevisionDate: 13-Apr-2006; LatestRevisionNote: IPC-7351 Footprint Added.; DatasheetVersion: May-1999; PackageVersion: Jul-1999; PackageReference: 751G-03; Publisher: Altium Limited; PackageDescription: 16-Pin Small Outline Integrated Circuit 1.27 mm Pitch; ComponentLink1Description: Manufacturer Link; ComponentLink1URL: http://www.onsemi.com/site/products/taxonomy/0,4438,503,00.html; ComponentLink2Description: Datasheet; ComponentLink2URL: http://www.onsemi.com/pub/Collateral/MC34067-D.PDF
footprint 751G-03_N (SOIC, 16-Leads, Body 10.3x7.5mm, Pitch 1.27mm, IPC Medium Density)
footprint 751G-03_L (SOIC, 16-Leads, Body 10.3x7.5mm, Pitch 1.27mm, IPC High Density)
footprint 751G-03_M (SOIC, 16-Leads, Body 10.3x7.5mm, Pitch 1.27mm, IPC Low Density)
pins: 1 OSC CHG, 2 OSC RC, 3 OSC CTLI, 4 GND (power), 5 VREF (out), 6 ERR OUT (out), 7 IN- (in), 8 IN+ (in), 9 EN/UVLO Adj (in), 10 FLT IN (in), 11 CSS, 12 DRV OUT B (out), 13 P GND (power), 14 DRV OUTA (out), 15 VCC (power), 16 RC

## MC34067P
designator U?
High Performance Resonant Mode Controller; Published: 15-Apr-2002; DatasheetVersion: May-1999; PackageVersion: Apr-2000; PackageReference: 648-08; Publisher: Altium Limited; PackageDescription: DIP; 16 Leads; Row Spacing 7.62 mm; Pitch 2.54 mm; Code_JEDEC: MS-001-BB; ComponentLink1Description: Manufacturer Link; ComponentLink1URL: http://www.onsemi.com/site/products/taxonomy/0,4438,503,00.html; ComponentLink2Description: Datasheet; ComponentLink2URL: http://www.onsemi.com/pub/Collateral/MC34067-D.PDF
footprint 648-08 (DIP; 16 Leads; Row Spacing 7.62 mm; Pitch 2.54 mm)
pins: 1 OSC CHG, 2 OSC RC, 3 OSC CTLI, 4 GND (power), 5 VREF (out), 6 ERR OUT (out), 7 IN- (in), 8 IN+ (in), 9 EN/UVLO Adj (in), 10 FLT IN (in), 11 CSS, 12 DRV OUT B (out), 13 P GND (power), 14 DRV OUTA (out), 15 VCC (power), 16 RC

## MC44602
designator U?
High Performance Current Mode Controller; Published: 15-Apr-2002; DatasheetVersion: 1996; PackageVersion: 1996; PackageReference: 648C-03; Publisher: Altium Limited; PackageDescription: DIP; 16 Leads; Row Spacing 7.62 mm; Pitch 2.54 mm; ComponentLink1Description: Manufacturer Link; ComponentLink1URL: http://www.onsemi.com/site/products/taxonomy/0,4438,503,00.html
footprint 648C-03 (DIP; 16 Leads; Row Spacing 7.62 mm; Pitch 2.54 mm)
pins: 1 CMPEN (out), 2 LD DET IN (in), 3 FB IN (in), 4 S GND (power), 5 S GND (power), 6 ISEN IN (in), 7 SYNC IN (in), 8 RT/CT, 9 GND (power), 10 S OUT (oc), 11 SRC OUT (out), 12 S GND (power), 13 S GND (power), 14 VC (power), 15 VCC (power), 16 VREF (out)

## UC2842BD
designator U?
High Performance Current Mode Controller; Published: 15-Apr-2002; LatestRevisionDate: 13-Apr-2006; LatestRevisionNote: IPC-7351 Footprint Added.; DatasheetVersion: 1996; PackageReference: 751A-03; Publisher: Altium Limited; PackageDescription: 14-Pin Small Outline Integrated Circuit 1.27 mm Pitch; Code_JEDEC: MS-012-AB; Code_IPC: SOIC127P600-14; ComponentLink1Description: Manufacturer Link; ComponentLink1URL: http://www.onsemi.com/site/products/taxonomy/0,4438,503,00.html; ComponentLink2Description: Datasheet; ComponentLink2URL: http://www.onsemi.com/pub/Collateral/UC3842B.PDF
footprint 751A-03_N (SOIC, 14-Leads, Body 8.7x3.9mm, Pitch 1.27mm, IPC Medium Density)
footprint 751A-03_L (SOIC, 14-Leads, Body 8.7x3.9mm, Pitch 1.27mm, IPC High Density)
footprint 751A-03_M (SOIC, 14-Leads, Body 8.7x3.9mm, Pitch 1.27mm, IPC Low Density)
pins: 1 CMPEN (out), 2 NC, 3 VFB (in), 4 NC, 5 ISEN (in), 6 NC, 7 RT/CT, 8 PGND (power), 9 GND (power), 10 OUT (out), 11 VC (power), 12 VCC (power), 13 NC, 14 VREF (out)

## UC2842BD1
designator U?
High Performance Current Mode Controller; Published: 15-Apr-2002; LatestRevisionDate: 13-Apr-2006; LatestRevisionNote: IPC-7351 Footprint Added.; DatasheetVersion: 1996; PackageVersion: 1998; PackageReference: 751-05; Publisher: Altium Limited; PackageDescription: 8-Pin Small Outline Integrated Circuit 1.27 mm Pitch; Code_JEDEC: MS-012-AA; Code_IPC: SOIC127P600-8; ComponentLink1Description: Manufacturer Link; ComponentLink1URL: http://www.onsemi.com/site/products/taxonomy/0,4438,503,00.html; ComponentLink2Description: Datasheet; ComponentLink2URL: http://www.onsemi.com/pub/Collateral/UC3842B.PDF
footprint 751-05_N (SOIC, 8-Leads, Body 4.9x3.9mm, Pitch 1.27mm, IPC Medium Density)
footprint 751-05_L (SOIC, 8-Leads, Body 4.9x3.9mm, Pitch 1.27mm, IPC High Density)
footprint 751-05_M (SOIC, 8-Leads, Body 4.9x3.9mm, Pitch 1.27mm, IPC Low Density)
pins: 1 CMPEN (out), 2 VFB (in), 3 ISEN (in), 4 RT/CT, 5 GND (power), 6 OUT (out), 7 VCC (power), 8 VREF (out)

## UC2842BN
designator U?
High Performance Current Mode Controller; Published: 15-Apr-2002; DatasheetVersion: 1996; PackageVersion: 1998; PackageReference: 626-05; Publisher: Altium Limited; PackageDescription: DIP; 8 Leads; Row Spacing 7.62 mm; Pitch 2.54 mm; ComponentLink1Description: Manufacturer Link; ComponentLink1URL: http://www.onsemi.com/site/products/taxonomy/0,4438,503,00.html; ComponentLink2Description: Datasheet; ComponentLink2URL: http://www.onsemi.com/pub/Collateral/UC3842B.PDF
footprint 626-05 (DIP; 8 Leads; Row Spacing 7.62 mm; Pitch 2.54 mm)
pins: 1 CMPEN (out), 2 VFB (in), 3 ISEN (in), 4 RT/CT, 5 GND (power), 6 OUT (out), 7 VCC (power), 8 VREF (out)

## UC2843BD
designator U?
High Performance Current Mode Controller; Published: 15-Apr-2002; LatestRevisionDate: 13-Apr-2006; LatestRevisionNote: IPC-7351 Footprint Added.; DatasheetVersion: 1996; PackageReference: 751A-03; Publisher: Altium Limited; PackageDescription: 14-Pin Small Outline Integrated Circuit 1.27 mm Pitch; Code_JEDEC: MS-012-AB; Code_IPC: SOIC127P600-14; ComponentLink1Description: Manufacturer Link; ComponentLink1URL: http://www.onsemi.com/site/products/taxonomy/0,4438,503,00.html; ComponentLink2Description: Datasheet; ComponentLink2URL: http://www.onsemi.com/pub/Collateral/UC3842B.PDF
footprint 751A-03_N (SOIC, 14-Leads, Body 8.7x3.9mm, Pitch 1.27mm, IPC Medium Density)
footprint 751A-03_L (SOIC, 14-Leads, Body 8.7x3.9mm, Pitch 1.27mm, IPC High Density)
footprint 751A-03_M (SOIC, 14-Leads, Body 8.7x3.9mm, Pitch 1.27mm, IPC Low Density)
pins: 1 CMPEN (out), 2 NC, 3 VFB (in), 4 NC, 5 ISEN (in), 6 NC, 7 RT/CT, 8 PGND (power), 9 GND (power), 10 OUT (out), 11 VC (power), 12 VCC (power), 13 NC, 14 VREF (out)

## UC2843BD1
designator U?
High Performance Current Mode Controller; Published: 15-Apr-2002; LatestRevisionDate: 13-Apr-2006; LatestRevisionNote: IPC-7351 Footprint Added.; DatasheetVersion: 1996; PackageVersion: 1998; PackageReference: 751-05; Publisher: Altium Limited; PackageDescription: 8-Pin Small Outline Integrated Circuit 1.27 mm Pitch; Code_JEDEC: MS-012-AA; Code_IPC: SOIC127P600-8; ComponentLink1Description: Manufacturer Link; ComponentLink1URL: http://www.onsemi.com/site/products/taxonomy/0,4438,503,00.html; ComponentLink2Description: Datasheet; ComponentLink2URL: http://www.onsemi.com/pub/Collateral/UC3842B.PDF
footprint 751-05_N (SOIC, 8-Leads, Body 4.9x3.9mm, Pitch 1.27mm, IPC Medium Density)
footprint 751-05_L (SOIC, 8-Leads, Body 4.9x3.9mm, Pitch 1.27mm, IPC High Density)
footprint 751-05_M (SOIC, 8-Leads, Body 4.9x3.9mm, Pitch 1.27mm, IPC Low Density)
pins: 1 CMPEN (out), 2 VFB (in), 3 ISEN (in), 4 RT/CT, 5 GND (power), 6 OUT (out), 7 VCC (power), 8 VREF (out)

## UC2843BN
designator U?
High Performance Current Mode Controller; Published: 15-Apr-2002; DatasheetVersion: 1996; PackageVersion: 1998; PackageReference: 626-05; Publisher: Altium Limited; PackageDescription: DIP; 8 Leads; Row Spacing 7.62 mm; Pitch 2.54 mm; ComponentLink1Description: Manufacturer Link; ComponentLink1URL: http://www.onsemi.com/site/products/taxonomy/0,4438,503,00.html; ComponentLink2Description: Datasheet; ComponentLink2URL: http://www.onsemi.com/pub/Collateral/UC3842B.PDF
footprint 626-05 (DIP; 8 Leads; Row Spacing 7.62 mm; Pitch 2.54 mm)
pins: 1 CMPEN (out), 2 VFB (in), 3 ISEN (in), 4 RT/CT, 5 GND (power), 6 OUT (out), 7 VCC (power), 8 VREF (out)

## UC2844BD
designator U?
High Performance Current Mode Controller; Published: 15-Apr-2002; LatestRevisionDate: 13-Apr-2006; LatestRevisionNote: IPC-7351 Footprint Added.; DatasheetVersion: 1996; PackageReference: 751A-03; Publisher: Altium Limited; PackageDescription: 14-Pin Small Outline Integrated Circuit 1.27 mm Pitch; Code_JEDEC: MS-012-AB; Code_IPC: SOIC127P600-14; ComponentLink1Description: Manufacturer Link; ComponentLink1URL: http://www.onsemi.com/site/products/taxonomy/0,4438,503,00.html; ComponentLink2Description: Datasheet; ComponentLink2URL: http://www.onsemi.com/pub/Collateral/UC3844B-D.PDF
footprint 751A-03_N (SOIC, 14-Leads, Body 8.7x3.9mm, Pitch 1.27mm, IPC Medium Density)
footprint 751A-03_L (SOIC, 14-Leads, Body 8.7x3.9mm, Pitch 1.27mm, IPC High Density)
footprint 751A-03_M (SOIC, 14-Leads, Body 8.7x3.9mm, Pitch 1.27mm, IPC Low Density)
pins: 1 CMPEN (out), 2 NC, 3 VFB (in), 4 NC, 5 ISEN (in), 6 NC, 7 RT/CT, 8 PGND (power), 9 GND (power), 10 OUT (out), 11 VC (power), 12 VCC (power), 13 NC, 14 VREF (out)

## UC2844BD1
designator U?
High Performance Current Mode Controller; Published: 15-Apr-2002; LatestRevisionDate: 13-Apr-2006; LatestRevisionNote: IPC-7351 Footprint Added.; DatasheetVersion: 1996; PackageVersion: 1998; PackageReference: 751-05; Publisher: Altium Limited; PackageDescription: 8-Pin Small Outline Integrated Circuit 1.27 mm Pitch; Code_JEDEC: MS-012-AA; Code_IPC: SOIC127P600-8; ComponentLink1Description: Manufacturer Link; ComponentLink1URL: http://www.onsemi.com/site/products/taxonomy/0,4438,503,00.html; ComponentLink2Description: Datasheet; ComponentLink2URL: http://www.onsemi.com/pub/Collateral/UC3844B-D.PDF
footprint 751-05_N (SOIC, 8-Leads, Body 4.9x3.9mm, Pitch 1.27mm, IPC Medium Density)
footprint 751-05_L (SOIC, 8-Leads, Body 4.9x3.9mm, Pitch 1.27mm, IPC High Density)
footprint 751-05_M (SOIC, 8-Leads, Body 4.9x3.9mm, Pitch 1.27mm, IPC Low Density)
pins: 1 CMPEN (out), 2 VFB (in), 3 ISEN (in), 4 RT/CT, 5 GND (power), 6 OUT (out), 7 VCC (power), 8 VREF (out)

## UC2844BN
designator U?
High Performance Current Mode Controller; Published: 15-Apr-2002; DatasheetVersion: 1996; PackageVersion: 1998; PackageReference: 626-05; Publisher: Altium Limited; PackageDescription: DIP; 8 Leads; Row Spacing 7.62 mm; Pitch 2.54 mm; ComponentLink1Description: Manufacturer Link; ComponentLink1URL: http://www.onsemi.com/site/products/taxonomy/0,4438,503,00.html; ComponentLink2Description: Datasheet; ComponentLink2URL: http://www.onsemi.com/pub/Collateral/UC3844B-D.PDF
footprint 626-05 (DIP; 8 Leads; Row Spacing 7.62 mm; Pitch 2.54 mm)
pins: 1 CMPEN (out), 2 VFB (in), 3 ISEN (in), 4 RT/CT, 5 GND (power), 6 OUT (out), 7 VCC (power), 8 VREF (out)

## UC2844D
designator U?
High Performance Current Mode Controller; Published: 15-Apr-2002; LatestRevisionDate: 13-Apr-2006; LatestRevisionNote: IPC-7351 Footprint Added.; DatasheetVersion: 1996; PackageReference: 751A-03; Publisher: Altium Limited; PackageDescription: 14-Pin Small Outline Integrated Circuit 1.27 mm Pitch; Code_JEDEC: MS-012-AB; Code_IPC: SOIC127P600-14; ComponentLink1Description: Manufacturer Link; ComponentLink1URL: http://www.onsemi.com/site/products/taxonomy/0,4438,503,00.html; ComponentLink2Description: Datasheet; ComponentLink2URL: http://www.onsemi.com/pub/Collateral/UC3844-D.PDF
footprint 751A-03_N (SOIC, 14-Leads, Body 8.7x3.9mm, Pitch 1.27mm, IPC Medium Density)
footprint 751A-03_L (SOIC, 14-Leads, Body 8.7x3.9mm, Pitch 1.27mm, IPC High Density)
footprint 751A-03_M (SOIC, 14-Leads, Body 8.7x3.9mm, Pitch 1.27mm, IPC Low Density)
pins: 1 CMPEN (out), 2 NC, 3 VFB (in), 4 NC, 5 ISEN (in), 6 NC, 7 RT/CT, 8 PGND (power), 9 GND (power), 10 OUT (out), 11 VC (power), 12 VCC (power), 13 NC, 14 VREF (out)

## UC2844N
designator U?
High Performance Current Mode Controller; Published: 15-Apr-2002; DatasheetVersion: 1996; PackageVersion: 1998; PackageReference: 626-05; Publisher: Altium Limited; PackageDescription: DIP; 8 Leads; Row Spacing 7.62 mm; Pitch 2.54 mm; ComponentLink1Description: Manufacturer Link; ComponentLink1URL: http://www.onsemi.com/site/products/taxonomy/0,4438,503,00.html; ComponentLink2Description: Datasheet; ComponentLink2URL: http://www.onsemi.com/pub/Collateral/UC3844-D.PDF
footprint 626-05 (DIP; 8 Leads; Row Spacing 7.62 mm; Pitch 2.54 mm)
pins: 1 CMPEN (out), 2 VFB (in), 3 ISEN (in), 4 RT/CT, 5 GND (power), 6 OUT (out), 7 VCC (power), 8 VREF (out)

## UC2845BD
designator U?
High Performance Current Mode Controller; Published: 15-Apr-2002; LatestRevisionDate: 13-Apr-2006; LatestRevisionNote: IPC-7351 Footprint Added.; DatasheetVersion: 1996; PackageReference: 751A-03; Publisher: Altium Limited; PackageDescription: 14-Pin Small Outline Integrated Circuit 1.27 mm Pitch; Code_JEDEC: MS-012-AB; Code_IPC: SOIC127P600-14; ComponentLink1Description: Manufacturer Link; ComponentLink1URL: http://www.onsemi.com/site/products/taxonomy/0,4438,503,00.html; ComponentLink2Description: Datasheet; ComponentLink2URL: http://www.onsemi.com/pub/Collateral/UC3844B-D.PDF
footprint 751A-03_N (SOIC, 14-Leads, Body 8.7x3.9mm, Pitch 1.27mm, IPC Medium Density)
footprint 751A-03_L (SOIC, 14-Leads, Body 8.7x3.9mm, Pitch 1.27mm, IPC High Density)
footprint 751A-03_M (SOIC, 14-Leads, Body 8.7x3.9mm, Pitch 1.27mm, IPC Low Density)
pins: 1 CMPEN (out), 2 NC, 3 VFB (in), 4 NC, 5 ISEN (in), 6 NC, 7 RT/CT, 8 PGND (power), 9 GND (power), 10 OUT (out), 11 VC (power), 12 VCC (power), 13 NC, 14 VREF (out)

## UC2845BD1
designator U?
High Performance Current Mode Controller; Published: 15-Apr-2002; LatestRevisionDate: 13-Apr-2006; LatestRevisionNote: IPC-7351 Footprint Added.; DatasheetVersion: 1996; PackageVersion: 1998; PackageReference: 751-05; Publisher: Altium Limited; PackageDescription: 8-Pin Small Outline Integrated Circuit 1.27 mm Pitch; Code_JEDEC: MS-012-AA; Code_IPC: SOIC127P600-8; ComponentLink1Description: Manufacturer Link; ComponentLink1URL: http://www.onsemi.com/site/products/taxonomy/0,4438,503,00.html; ComponentLink2Description: Datasheet; ComponentLink2URL: http://www.onsemi.com/pub/Collateral/UC3844B-D.PDF
footprint 751-05_N (SOIC, 8-Leads, Body 4.9x3.9mm, Pitch 1.27mm, IPC Medium Density)
footprint 751-05_L (SOIC, 8-Leads, Body 4.9x3.9mm, Pitch 1.27mm, IPC High Density)
footprint 751-05_M (SOIC, 8-Leads, Body 4.9x3.9mm, Pitch 1.27mm, IPC Low Density)
pins: 1 CMPEN (out), 2 VFB (in), 3 ISEN (in), 4 RT/CT, 5 GND (power), 6 OUT (out), 7 VCC (power), 8 VREF (out)

## UC2845BN
designator U?
High Performance Current Mode Controller; Published: 15-Apr-2002; DatasheetVersion: 1996; PackageVersion: 1998; PackageReference: 626-05; Publisher: Altium Limited; PackageDescription: DIP; 8 Leads; Row Spacing 7.62 mm; Pitch 2.54 mm; ComponentLink1Description: Manufacturer Link; ComponentLink1URL: http://www.onsemi.com/site/products/taxonomy/0,4438,503,00.html; ComponentLink2Description: Datasheet; ComponentLink2URL: http://www.onsemi.com/pub/Collateral/UC3844B-D.PDF
footprint 626-05 (DIP; 8 Leads; Row Spacing 7.62 mm; Pitch 2.54 mm)
pins: 1 CMPEN (out), 2 VFB (in), 3 ISEN (in), 4 RT/CT, 5 GND (power), 6 OUT (out), 7 VCC (power), 8 VREF (out)